# EAGLE library part SI1083 (library ic-mcu)
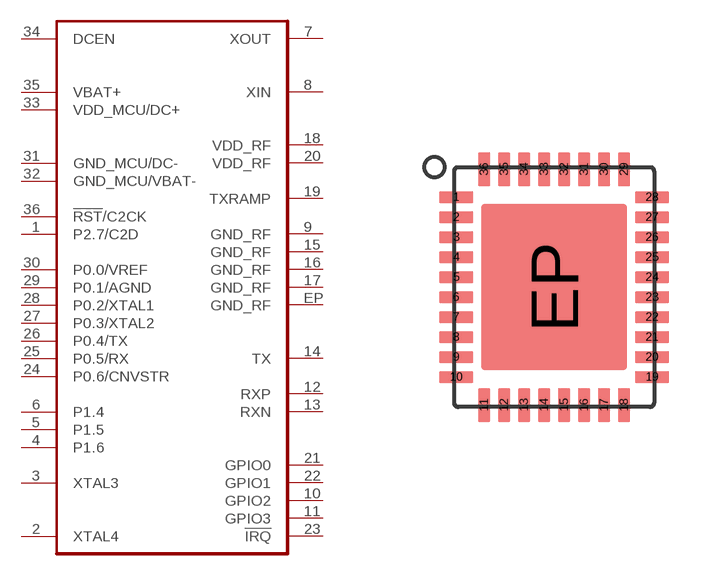
[diagram p1: symbol with the pads of QFN-36; footprint QFN-36]

Designator prefix IC

## SI1083  [QFN-36]
1  P2.7/C2D
2  XTAL4  pas
3  XTAL3  pas
4  P1.6
5  P1.5
6  P1.4
7  XOUT  out
8  XIN  in
9  GND_RF  pas
10  GPIO2
11  GPIO3
12  RXP  pas
13  RXN  pas
14  TX  pas
15  GND_RF  pas
16  GND_RF  pas
17  GND_RF  pas
18  VDD_RF  pas
19  TXRAMP  pas
20  VDD_RF  pas
21  GPIO0
22  GPIO1
23  !IRQ!
24  P0.6/CNVSTR
25  P0.5/RX
26  P0.4/TX
27  P0.3/XTAL2
28  P0.2/XTAL1
29  P0.1/AGND
30  P0.0/VREF
31  GND_MCU/DC-  pas
32  GND_MCU/VBAT-  nc
33  VDD_MCU/DC+  pas
34  DCEN  nc
35  VBAT+  nc
36  !RST!/C2CK
EP  GND_RF  pas

## Footprint QFN-36 (pad centres in mm)
smd 0.85 x 0.3: 1 -2.45,2.25; 2 -2.45,1.75; 3 -2.45,1.25; 4 -2.45,0.75; 5 -2.45,0.25; 6 -2.45,-0.25; 7 -2.45,-0.75; 8 -2.45,-1.25; 9 -2.45,-1.75; 10 -2.45,-2.25; 19 2.45,-2.25; 20 2.45,-1.75; 21 2.45,-1.25; 22 2.45,-0.75; 23 2.45,-0.25; 24 2.45,0.25; 25 2.45,0.75; 26 2.45,1.25; 27 2.45,1.75; 28 2.45,2.25
smd 0.3 x 0.85: 11 -1.75,-2.95; 12 -1.25,-2.95; 13 -0.75,-2.95; 14 -0.25,-2.95; 15 0.25,-2.95; 16 0.75,-2.95; 17 1.25,-2.95; 18 1.75,-2.95; 29 1.75,2.95; 30 1.25,2.95; 31 0.75,2.95; 32 0.25,2.95; 33 -0.25,2.95; 34 -0.75,2.95; 35 -1.25,2.95; 36 -1.75,2.95
smd 3.65 x 4.15: EP 0,0